# Altium footprint library 142-0711-821.PcbLib: 1 footprints
Each footprint in its own frame and in the unit in brackets; x right, y up, seen from the top. Pads: shape width x height; smd on the part's side, far side on the other; paste and mask are expansions set on the pad; w line width, h text height; cw(c..) or ccw(c..) is an arc to the next point about the centre after c.
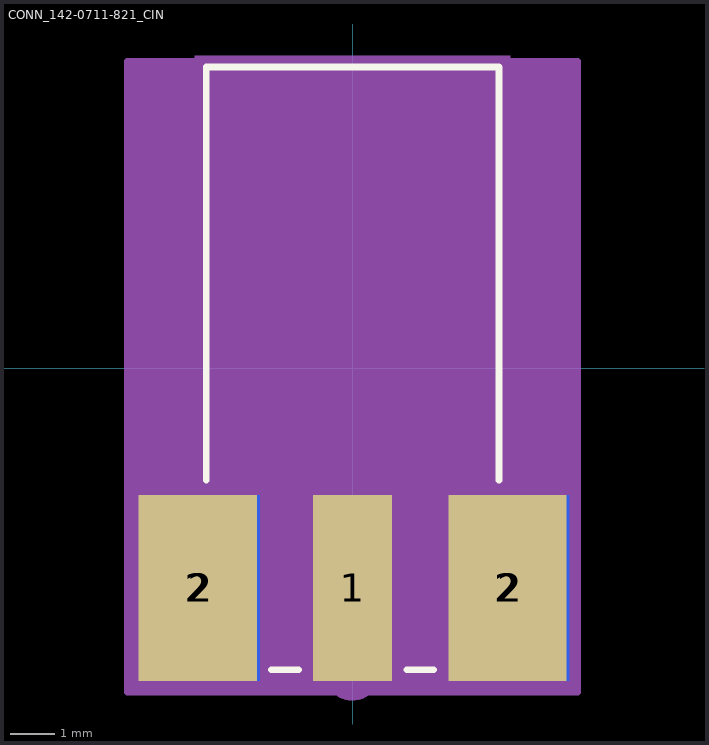
[diagram p0: the footprint, top view; thin cyan lines are the x and y axes]

## CONN_142-0711-821_CIN [mil]
pads (5):
  rect 70x165 smd paste+0 mask+0: 1(0,-195)
  rect 105x165 smd: 2(-137.5,-195) 2(137.5,-195)
  rect 105x165 smd far side: 2(-135,-195) 2(140,-195)
Top Overlay:
  lines w6: -130,-99.4 -130,267.5 130,267.5 130,-99.4 ; -71.9,-267.5 -48.1,-267.5 ; 48.1,-267.5 71.9,-267.5
Bottom Overlay:
  circle w20: c-155,-195 r15
Mechanical 5:
  region: -140,277.5 140,277.5 140,-277.5 -140,-277.5
Mechanical 13:
  circle w20: c0,-270 r15
  lines w1: -125,-262.5 -125,262.5 125,262.5 125,-262.5 -125,-262.5
Mechanical 15:
  region: 200,272.5 -200,272.5 -200,-287.5 200,-287.5
  lines w6: -200,-287.5 200,-287.5 200,272.5 -200,272.5 -200,-287.5
3D body: height 10, standoff 0, extent 0,0 10,10